# Altium schematic symbol library TRANS-PNP-BCE.SCHLIB: 1 symbol
Pins are listed as number, name and electrical type; pins without a type are passive.

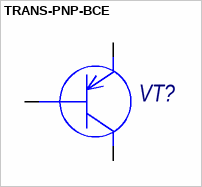
[diagram p0: symbol TRANS-PNP-BCE]

## TRANS-PNP-BCE
designator VT?
pins: 1 B, 2 C, 3 E